# Altium schematic symbol library AD8610.SchLib: 1 symbol
Pins are listed as number, name and electrical type; pins without a type are passive.

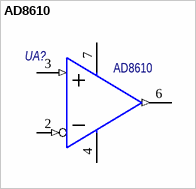
[diagram p0: symbol AD8610]

## AD8610
designator UA?
Precision, Very Low Noise, Low Input Bias Current, Wide Bandwidth JFET Operational Amplifier; Потребление, Вт: 0,03; Назначение: Wide Bandwidth JFET Operational Amplifier; ComponentLink1Description: datasheet; ComponentLink1URL: https://static.chipdip.ru/lib/150/DOC000150035.pdf; Наименование: AD8610
footprint MSOP-8
footprint MSOP-8_INV
pins: 2 -IN (in), 3 +IN (in), 4 V- (power), 6 OUT (out), 7 V+ (power)